# Altium footprint library WR-WTB_1.25mm.PcbLib: 46 footprints (part 3 of 3)
Each footprint in its own frame and in the unit in brackets; x right, y up, seen from the top. Pads: shape width x height; smd on the part's side, far side on the other; paste and mask are expansions set on the pad; w line width, h text height; cw(c..) or ccw(c..) is an arc to the next point about the centre after c.
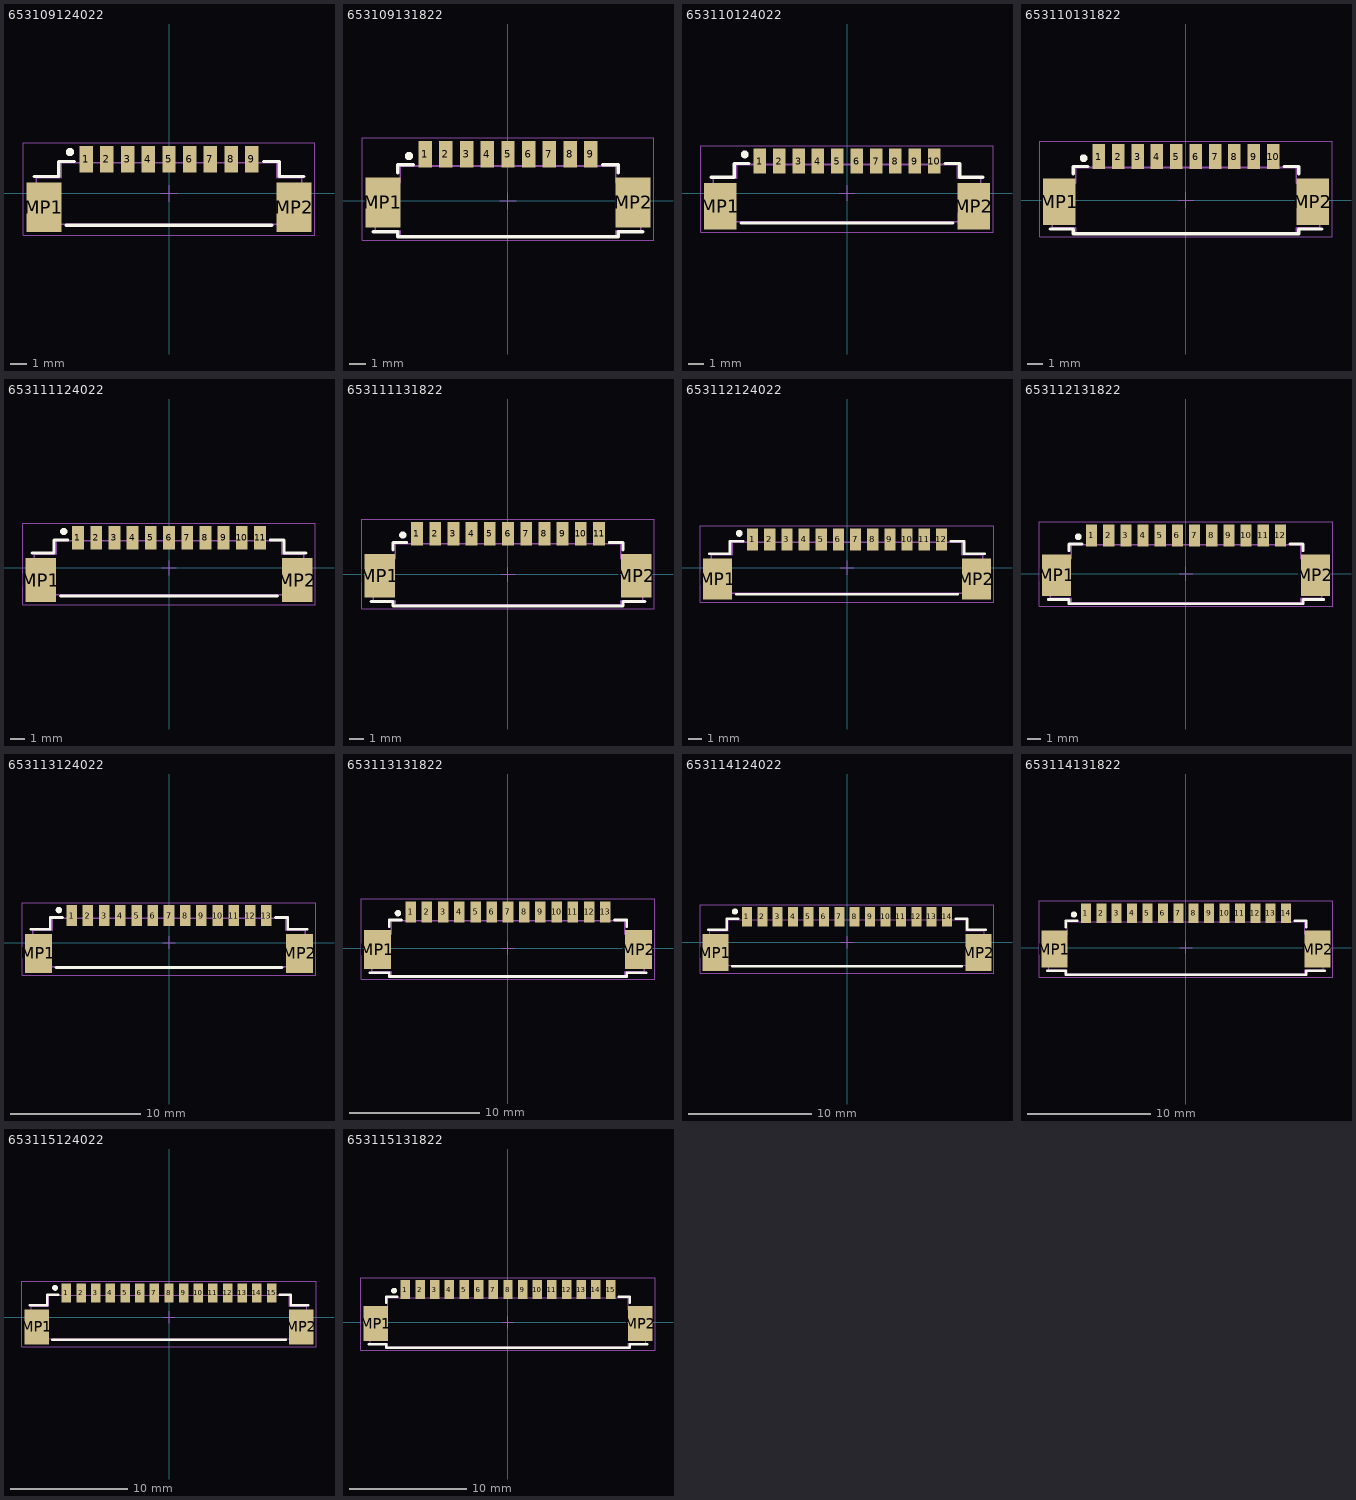
[diagram p2: the footprints below, top view; thin cyan lines are the x and y axes]

## 653109124022 [mm] "1.25mm SMT Male Vertical Shrouded Header, 9p"
height 4.75
pads (11):
  rect 0.81x1.6 smd: 1(-5,2.07) 2(-3.75,2.07) 3(-2.5,2.07) 4(-1.25,2.07) 5(0,2.07) 6(1.25,2.07) 7(2.5,2.07) 8(3.75,2.07) 9(5,2.07)
  rect 2.1x3 smd: MP1(-7.55,-0.83) MP2(7.55,-0.83)
Top Overlay:
  circle w0.25: c-5.975,2.5 r0.125
  lines w0.2: -8.15,1.025 -6.65,1.025 -6.65,1.925 -5.7,1.925 ; -6.2,-1.925 6.2,-1.925 ; 5.7,1.925 6.65,1.925 6.65,1.025 8.15,1.025
Mechanical 13:
  lines w0.1: -8,-1.85 -8,0.95 -6.5,0.95 -6.5,1.85 6.5,1.85 6.5,0.95 8,0.95 8,-1.85 -8,-1.85
Mechanical 15:
  lines w0.05: -0.5,0 0.5,0 ; 0,-0.5 0,0.5 ; -8.8,-2.53 -8.8,3.07 8.8,3.07 8.8,-2.53 -8.8,-2.53
3D body "653109124022.stp": height 4.74, standoff -0.01, extent -8.1,-1.85 8.1,2.355

## 653109131822 [mm] "1.25mm SMT Male Horizontal Shrouded Header, 9p"
height 3.4
pads (11):
  rect 0.81x1.6 smd: 1(-5,2.8) 2(-3.75,2.8) 3(-2.5,2.8) 4(-1.25,2.8) 5(0,2.8) 6(1.25,2.8) 7(2.5,2.8) 8(3.75,2.8) 9(5,2.8)
  rect 2.1x3 smd: MP1(-7.55,-0.1) MP2(7.55,-0.1)
Top Overlay:
  circle w0.25: c-5.975,2.7 r0.125
  lines w0.2: -8.15,-1.875 -6.65,-1.875 -6.65,-2.175 6.65,-2.175 6.65,-1.875 8.15,-1.875 ; -6.65,1.675 -6.65,2.175 -5.7,2.175 ; 5.7,2.175 6.65,2.175 6.65,1.675
Mechanical 13:
  lines w0.1: -8,-1.78 -8,1.08 -6.5,1.08 -6.5,2.1 6.5,2.1 6.5,1.08 8,1.08 8,-1.78 ; -7.98,-1.8 -6.5,-1.8 -6.5,-2.1 6.5,-2.1 6.5,-1.8 7.98,-1.8
Mechanical 15:
  lines w0.05: -0.5,0 0.5,0 ; 0,-0.5 0,0.5 ; -8.8,-2.375 8.8,-2.375 8.8,3.8 -8.8,3.8 -8.8,-2.375
3D body "653109131822.stp": height 3.4, standoff -0.01, extent -8,-2.1 8,3.3

## 653110124022 [mm] "1.25mm SMT Male Vertical Shrouded Header, 10p"
height 4.75
pads (12):
  rect 0.81x1.6 smd: 1(-5.625,2.07) 2(-4.375,2.07) 3(-3.125,2.07) 4(-1.875,2.07) 5(-0.625,2.07) 6(0.625,2.07) 7(1.875,2.07) 8(3.125,2.07) 9(4.375,2.07) 10(5.625,2.07)
  rect 2.1x3 smd: MP1(-8.175,-0.83) MP2(8.175,-0.83)
Top Overlay:
  circle w0.25: c-6.6,2.5 r0.125
  lines w0.2: -8.775,1.025 -7.275,1.025 -7.275,1.925 -6.325,1.925 ; -6.825,-1.925 6.825,-1.925 ; 6.325,1.925 7.275,1.925 7.275,1.025 8.775,1.025
Mechanical 13:
  lines w0.1: -8.625,-1.85 -8.625,0.95 -7.125,0.95 -7.125,1.85 7.125,1.85 7.125,0.95 8.625,0.95 8.625,-1.85 -8.625,-1.85
Mechanical 15:
  lines w0.05: -0.5,0 0.5,0 ; 0,-0.5 0,0.5 ; -9.425,-2.53 -9.425,3.07 9.425,3.07 9.425,-2.53 -9.425,-2.53
3D body "653110124022.stp": height 4.74, standoff -0.01, extent -8.725,-1.85 8.725,2.355

## 653110131822 [mm] "1.25mm SMT Male Horizontal Shrouded Header, 10p"
height 3.4
pads (12):
  rect 0.81x1.6 smd: 1(-5.625,2.8) 2(-4.375,2.8) 3(-3.125,2.8) 4(-1.875,2.8) 5(-0.625,2.8) 6(0.625,2.8) 7(1.875,2.8) 8(3.125,2.8) 9(4.375,2.8) 10(5.625,2.8)
  rect 2.1x3 smd: MP1(-8.175,-0.1) MP2(8.175,-0.1)
Top Overlay:
  circle w0.25: c-6.6,2.7 r0.125
  lines w0.2: -8.775,-1.875 -7.275,-1.875 -7.275,-2.175 7.275,-2.175 7.275,-1.875 8.775,-1.875 ; -7.275,1.675 -7.275,2.175 -6.325,2.175 ; 6.325,2.175 7.275,2.175 7.275,1.675
Mechanical 13:
  lines w0.1: -8.625,-1.78 -8.625,1.08 -7.125,1.08 -7.125,2.1 7.125,2.1 7.125,1.08 8.625,1.08 8.625,-1.78 ; -8.605,-1.8 -7.125,-1.8 -7.125,-2.1 7.125,-2.1 7.125,-1.8 8.605,-1.8
Mechanical 15:
  lines w0.05: -0.5,0 0.5,0 ; 0,-0.5 0,0.5 ; -9.425,-2.375 9.425,-2.375 9.425,3.8 -9.425,3.8 -9.425,-2.375
3D body "653110131822.stp": height 3.4, standoff -0.01, extent -8.625,-2.1 8.625,3.3

## 653111124022 [mm] "1.25mm SMT Male Vertical Shrouded Header, 11p"
height 4.75
pads (13):
  rect 0.81x1.6 smd: 1(-6.25,2.07) 2(-5,2.07) 3(-3.75,2.07) 4(-2.5,2.07) 5(-1.25,2.07) 6(0,2.07) 7(1.25,2.07) 8(2.5,2.07) 9(3.75,2.07) 10(5,2.07) 11(6.25,2.07)
  rect 2.1x3 smd: MP1(-8.8,-0.83) MP2(8.8,-0.83)
Top Overlay:
  circle w0.25: c-7.225,2.5 r0.125
  lines w0.2: -9.4,1.025 -7.9,1.025 -7.9,1.925 -6.95,1.925 ; -7.45,-1.925 7.45,-1.925 ; 6.95,1.925 7.9,1.925 7.9,1.025 9.4,1.025
Mechanical 13:
  lines w0.1: -9.25,-1.85 9.25,-1.85 9.25,0.95 7.75,0.95 7.75,1.85 -7.75,1.85 -7.75,0.95 -9.25,0.95 -9.25,-1.85
Mechanical 15:
  lines w0.05: -0.5,0 0.5,0 ; 0,-0.5 0,0.5 ; -10.05,-2.53 10.05,-2.53 10.05,3.07 -10.05,3.07 -10.05,-2.53
3D body "653111124022.stp": height 4.74, standoff -0.01, extent -9.35,-1.85 9.35,2.355

## 653111131822 [mm] "1.25mm SMT Male Horizontal Shrouded Header, 11p"
height 3.4
pads (13):
  rect 0.81x1.6 smd: 1(-6.25,2.8) 2(-5,2.8) 3(-3.75,2.8) 4(-2.5,2.8) 5(-1.25,2.8) 6(0,2.8) 7(1.25,2.8) 8(2.5,2.8) 9(3.75,2.8) 10(5,2.8) 11(6.25,2.8)
  rect 2.1x3 smd: MP1(-8.8,-0.1) MP2(8.8,-0.1)
Top Overlay:
  circle w0.25: c-7.225,2.7 r0.125
  lines w0.2: -9.4,-1.875 -7.9,-1.875 -7.9,-2.175 7.9,-2.175 7.9,-1.875 9.4,-1.875 ; -7.9,1.675 -7.9,2.175 -6.95,2.175 ; 6.95,2.175 7.9,2.175 7.9,1.675
Mechanical 13:
  lines w0.1: -9.25,-1.78 -9.25,1.08 -7.75,1.08 -7.75,2.1 7.75,2.1 7.75,1.08 9.25,1.08 9.25,-1.78 ; -9.23,-1.8 -7.75,-1.8 -7.75,-2.1 7.75,-2.1 7.75,-1.8 9.23,-1.8
Mechanical 15:
  lines w0.05: -0.5,0 0.5,0 ; 0,-0.5 0,0.5 ; -10.05,-2.375 -10.05,3.8 10.05,3.8 10.05,-2.375 -10.05,-2.375
3D body "653111131822.stp": height 3.4, standoff -0.01, extent -9.25,-2.1 9.25,3.3

## 653112124022 [mm] "1.25mm SMT Male Vertical Shrouded Header, 12p"
height 4.75
pads (14):
  rect 0.81x1.6 smd: 1(-6.875,2.07) 2(-5.625,2.07) 3(-4.375,2.07) 4(-3.125,2.07) 5(-1.875,2.07) 6(-0.625,2.07) 7(0.625,2.07) 8(1.875,2.07) 9(3.125,2.07) 10(4.375,2.07) 11(5.625,2.07) 12(6.875,2.07)
  rect 2.1x3 smd: MP1(-9.425,-0.83) MP2(9.425,-0.83)
Top Overlay:
  circle w0.25: c-7.85,2.5 r0.125
  lines w0.2: -10.025,1.025 -8.525,1.025 -8.525,1.925 -7.575,1.925 ; -8.075,-1.925 8.075,-1.925 ; 7.575,1.925 8.525,1.925 8.525,1.025 10.025,1.025
Mechanical 13:
  lines w0.1: -9.875,-1.85 9.875,-1.85 9.875,0.95 8.375,0.95 8.375,1.85 -8.375,1.85 -8.375,0.95 -9.875,0.95 -9.875,-1.85
Mechanical 15:
  lines w0.05: -0.5,0 0.5,0 ; 0,-0.5 0,0.5 ; -10.675,-2.53 10.675,-2.53 10.675,3.07 -10.675,3.07 -10.675,-2.53
3D body "653112124022.stp": height 4.74, standoff -0.01, extent -9.975,-1.85 9.975,2.355

## 653112131822 [mm] "1.25mm SMT Male Horizontal Shrouded Header, 12p"
height 3.4
pads (14):
  rect 0.81x1.6 smd: 1(-6.875,2.8) 2(-5.625,2.8) 3(-4.375,2.8) 4(-3.125,2.8) 5(-1.875,2.8) 6(-0.625,2.8) 7(0.625,2.8) 8(1.875,2.8) 9(3.125,2.8) 10(4.375,2.8) 11(5.625,2.8) 12(6.875,2.8)
  rect 2.1x3 smd: MP1(-9.425,-0.1) MP2(9.425,-0.1)
Top Overlay:
  circle w0.25: c-7.85,2.7 r0.125
  lines w0.2: -10.025,-1.875 -8.525,-1.875 -8.525,-2.175 8.525,-2.175 8.525,-1.875 10.025,-1.875 ; -8.525,1.675 -8.525,2.175 -7.575,2.175 ; 7.575,2.175 8.525,2.175 8.525,1.675
Mechanical 13:
  lines w0.1: -9.875,-1.78 -9.875,1.08 -8.375,1.08 -8.375,2.1 8.375,2.1 8.375,1.08 9.875,1.08 9.875,-1.78 ; -9.855,-1.8 -8.375,-1.8 -8.375,-2.1 8.375,-2.1 8.375,-1.8 9.855,-1.8
Mechanical 15:
  lines w0.05: -0.5,0 0.5,0 ; 0,-0.5 0,0.5 ; -10.675,-2.375 10.675,-2.375 10.675,3.8 -10.675,3.8 -10.675,-2.375
3D body "653112131822.stp": height 3.4, standoff -0.01, extent -9.875,-2.1 9.875,3.3

## 653113124022 [mm] "1.25mm SMT Male Vertical Shrouded Header, 13p"
height 4.75
pads (15):
  rect 0.81x1.6 smd: 1(-7.5,2.07) 2(-6.25,2.07) 3(-5,2.07) 4(-3.75,2.07) 5(-2.5,2.07) 6(-1.25,2.07) 7(0,2.07) 8(1.25,2.07) 9(2.5,2.07) 10(3.75,2.07) 11(5,2.07) 12(6.25,2.07) 13(7.5,2.07)
  rect 2.1x3 smd: MP1(-10.05,-0.83) MP2(10.05,-0.83)
Top Overlay:
  circle w0.25: c-8.475,2.5 r0.125
  lines w0.2: -10.65,1.025 -9.15,1.025 -9.15,1.925 -8.2,1.925 ; -8.7,-1.925 8.7,-1.925 ; 8.2,1.925 9.15,1.925 9.15,1.025 10.65,1.025
Mechanical 13:
  lines w0.1: -10.5,-1.85 10.5,-1.85 10.5,0.95 9,0.95 9,1.85 -9,1.85 -9,0.95 -10.5,0.95 -10.5,-1.85
Mechanical 15:
  lines w0.05: -0.5,0 0.5,0 ; 0,-0.5 0,0.5 ; -11.3,-2.53 11.3,-2.53 11.3,3.07 -11.3,3.07 -11.3,-2.53
3D body "653113124022.stp": height 4.74, standoff -0.01, extent -10.6,-1.85 10.6,2.355

## 653113131822 [mm] "1.25mm SMT Male Horizontal Shrouded Header, 13p"
height 3.4
pads (15):
  rect 0.81x1.6 smd: 1(-7.5,2.8) 2(-6.25,2.8) 3(-5,2.8) 4(-3.75,2.8) 5(-2.5,2.8) 6(-1.25,2.8) 7(0,2.8) 8(1.25,2.8) 9(2.5,2.8) 10(3.75,2.8) 11(5,2.8) 12(6.25,2.8) 13(7.5,2.8)
  rect 2.1x3 smd: MP1(-10.05,-0.1) MP2(10.05,-0.1)
Top Overlay:
  circle w0.25: c-8.475,2.7 r0.125
  lines w0.2: -10.65,-1.875 -9.15,-1.875 -9.15,-2.175 9.15,-2.175 9.15,-1.875 10.65,-1.875 ; -9.15,1.675 -9.15,2.175 -8.2,2.175 ; 8.2,2.175 9.15,2.175 9.15,1.675
Mechanical 13:
  lines w0.1: -10.5,-1.78 -10.5,1.08 -9,1.08 -9,2.1 9,2.1 9,1.08 10.5,1.08 10.5,-1.78 ; -10.48,-1.8 -9,-1.8 -9,-2.1 9,-2.1 9,-1.8 10.48,-1.8
Mechanical 15:
  lines w0.05: -0.5,0 0.5,0 ; 0,-0.5 0,0.5 ; -11.3,-2.375 -11.3,3.8 11.3,3.8 11.3,-2.375 -11.3,-2.375
3D body "653113131822.stp": height 3.4, standoff -0.01, extent -10.5,-2.1 10.5,3.3

## 653114124022 [mm] "1.25mm SMT Male Vertical Shrouded Header, 14p"
height 4.75
pads (16):
  rect 0.81x1.6 smd: 1(-8.125,2.07) 2(-6.875,2.07) 3(-5.625,2.07) 4(-4.375,2.07) 5(-3.125,2.07) 6(-1.875,2.07) 7(-0.625,2.07) 8(0.625,2.07) 9(1.875,2.07) 10(3.125,2.07) 11(4.375,2.07) 12(5.625,2.07) 13(6.875,2.07) 14(8.125,2.07)
  rect 2.1x3 smd: MP1(-10.675,-0.83) MP2(10.675,-0.83)
Top Overlay:
  circle w0.25: c-9.1,2.5 r0.125
  lines w0.2: -11.275,1.025 -9.775,1.025 -9.775,1.925 -8.825,1.925 ; -9.325,-1.925 9.325,-1.925 ; 8.825,1.925 9.775,1.925 9.775,1.025 11.275,1.025
Mechanical 13:
  lines w0.1: -11.125,-1.85 11.125,-1.85 11.125,0.95 9.625,0.95 9.625,1.85 -9.625,1.85 -9.625,0.95 -11.125,0.95 -11.125,-1.85
Mechanical 15:
  lines w0.05: -0.5,0 0.5,0 ; 0,-0.5 0,0.5 ; -11.925,-2.53 11.925,-2.53 11.925,3.07 -11.925,3.07 -11.925,-2.53
3D body "653114124022.stp": height 4.74, standoff -0.01, extent -11.225,-1.85 11.225,2.355

## 653114131822 [mm] "1.25mm SMT Male Horizontal Shrouded Header, 14p"
height 3.4
pads (16):
  rect 0.81x1.6 smd: 1(-8.125,2.8) 2(-6.875,2.8) 3(-5.625,2.8) 4(-4.375,2.8) 5(-3.125,2.8) 6(-1.875,2.8) 7(-0.625,2.8) 8(0.625,2.8) 9(1.875,2.8) 10(3.125,2.8) 11(4.375,2.8) 12(5.625,2.8) 13(6.875,2.8) 14(8.125,2.8)
  rect 2.1x3 smd: MP1(-10.675,-0.1) MP2(10.675,-0.1)
Top Overlay:
  circle w0.25: c-9.1,2.7 r0.125
  lines w0.2: -11.275,-1.875 -9.775,-1.875 -9.775,-2.175 9.775,-2.175 9.775,-1.875 11.275,-1.875 ; -9.775,1.675 -9.775,2.175 -8.825,2.175 ; 8.825,2.175 9.775,2.175 9.775,1.675
Mechanical 13:
  lines w0.1: -11.125,-1.78 -11.125,1.08 -9.625,1.08 -9.625,2.1 9.625,2.1 9.625,1.08 11.125,1.08 11.125,-1.78 ; -11.105,-1.8 -9.625,-1.8 -9.625,-2.1 9.625,-2.1 9.625,-1.8 11.105,-1.8
Mechanical 15:
  lines w0.05: -0.5,0 0.5,0 ; 0,-0.5 0,0.5 ; -11.925,-2.375 -11.925,3.8 11.925,3.8 11.925,-2.375 -11.925,-2.375
3D body "653114131822.stp": height 3.4, standoff -0.01, extent -11.125,-2.1 11.125,3.3

## 653115124022 [mm] "1.25mm SMT Male Vertical Shrouded Header, 15p"
height 4.75
pads (17):
  rect 0.81x1.6 smd: 1(-8.75,2.07) 2(-7.5,2.07) 3(-6.25,2.07) 4(-5,2.07) 5(-3.75,2.07) 6(-2.5,2.07) 7(-1.25,2.07) 8(0,2.07) 9(1.25,2.07) 10(2.5,2.07) 11(3.75,2.07) 12(5,2.07) 13(6.25,2.07) 14(7.5,2.07) 15(8.75,2.07)
  rect 2.1x3 smd: MP1(-11.3,-0.83) MP2(11.3,-0.83)
Top Overlay:
  circle w0.25: c-9.725,2.5 r0.125
  lines w0.2: -11.9,1.025 -10.4,1.025 -10.4,1.925 -9.45,1.925 ; -9.95,-1.925 9.95,-1.925 ; 9.45,1.925 10.4,1.925 10.4,1.025 11.9,1.025
Mechanical 13:
  lines w0.1: -11.75,-1.85 11.75,-1.85 11.75,0.95 10.25,0.95 10.25,1.85 -10.25,1.85 -10.25,0.95 -11.75,0.95 -11.75,-1.85
Mechanical 15:
  lines w0.05: -0.5,0 0.5,0 ; 0,-0.5 0,0.5 ; -12.55,-2.53 12.55,-2.53 12.55,3.07 -12.55,3.07 -12.55,-2.53
3D body "653115124022.stp": height 4.74, standoff -0.01, extent -11.85,-1.85 11.85,2.355

## 653115131822 [mm] "1.25mm SMT Male Horizontal Shrouded Header, 15p"
height 3.4
pads (17):
  rect 0.81x1.6 smd: 1(-8.75,2.8) 2(-7.5,2.8) 3(-6.25,2.8) 4(-5,2.8) 5(-3.75,2.8) 6(-2.5,2.8) 7(-1.25,2.8) 8(0,2.8) 9(1.25,2.8) 10(2.5,2.8) 11(3.75,2.8) 12(5,2.8) 13(6.25,2.8) 14(7.5,2.8) 15(8.75,2.8)
  rect 2.1x3 smd: MP1(-11.3,-0.1) MP2(11.3,-0.1)
Top Overlay:
  circle w0.25: c-9.725,2.7 r0.125
  lines w0.2: -11.9,-1.875 -10.4,-1.875 -10.4,-2.175 10.4,-2.175 10.4,-1.875 11.9,-1.875 ; -10.4,1.675 -10.4,2.175 -9.45,2.175 ; 9.45,2.175 10.4,2.175 10.4,1.675
Mechanical 13:
  lines w0.1: -11.75,-1.78 -11.75,1.08 -10.25,1.08 -10.25,2.1 10.25,2.1 10.25,1.08 11.75,1.08 11.75,-1.78 ; -11.73,-1.8 -10.25,-1.8 -10.25,-2.1 10.25,-2.1 10.25,-1.8 11.73,-1.8
Mechanical 15:
  lines w0.05: -0.5,0 0.5,0 ; 0,-0.5 0,0.5 ; -12.55,-2.375 12.55,-2.375 12.55,3.8 -12.55,3.8 -12.55,-2.375
3D body "653115131822.stp": height 3.4, standoff -0.01, extent -11.75,-2.1 11.75,3.3